# Altium schematic symbol library Schlib1.SchLib: 22 symbols
Pins are listed as number, name and electrical type; pins without a type are passive.

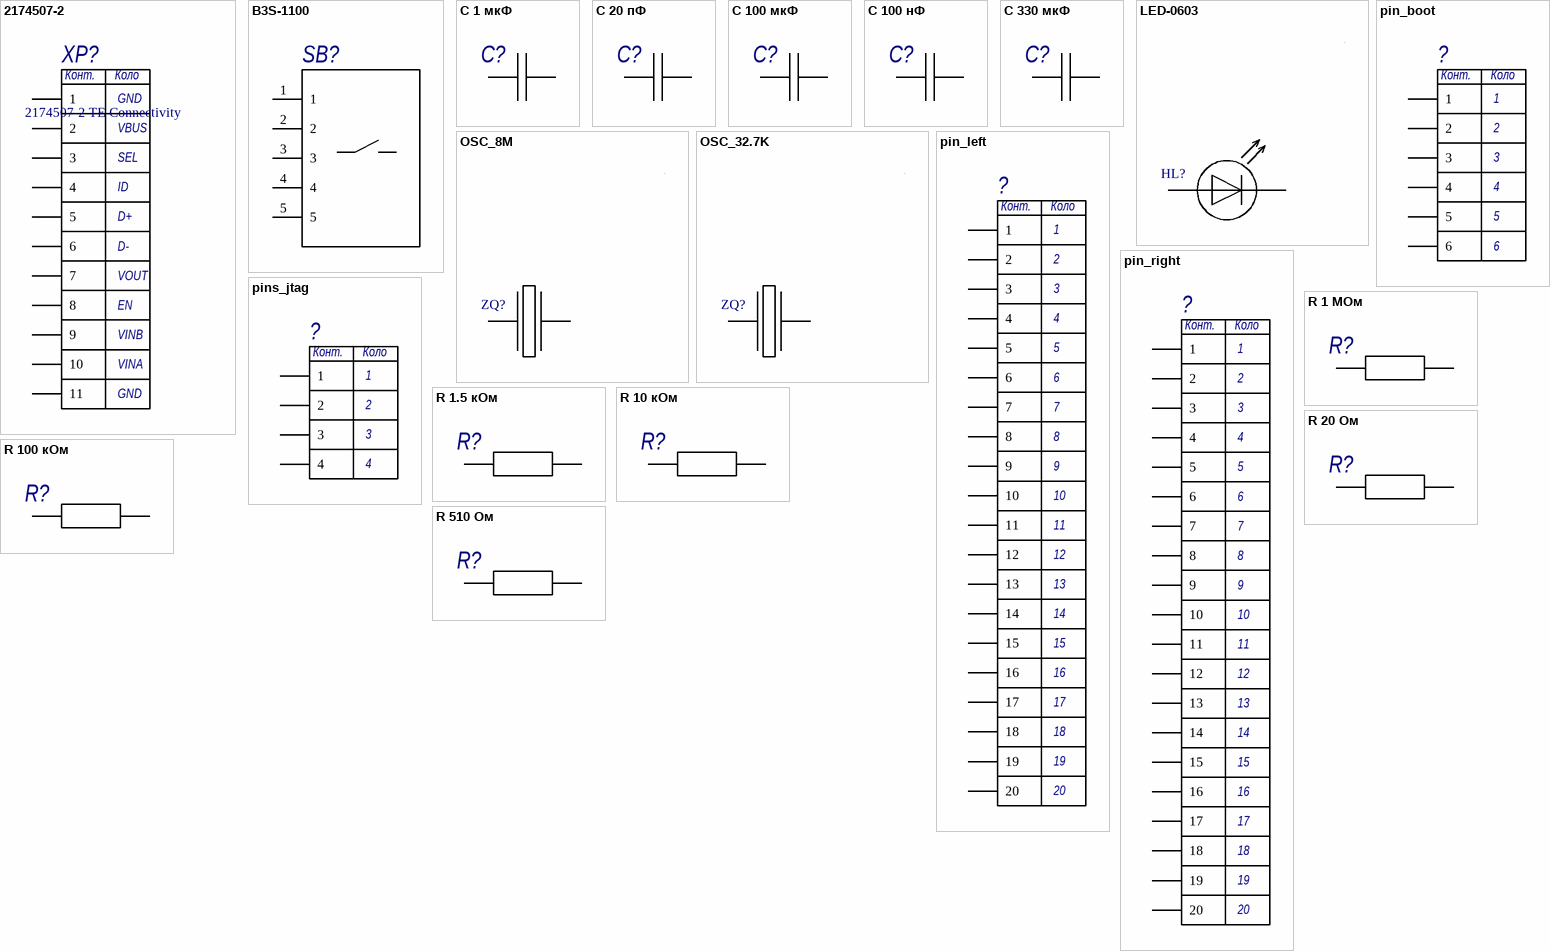
[diagram p0: symbols 2174507-2 to R 510 Ом]

## 2174507-2
designator XP?, comment 2174507-2 TE Connectivity
usb; Manufacturer: TE Connectivity; Name: 2174507-2
footprint CONN5_2013499-1_TEC - duplicate
pins: 1, 2, 3, 4, 5, 6, 7, 8, 9, 10, 11
text: Конт.; Коло; GND; VBUS; SEL; ID; D+; D-; VOUT; EN; VINB; VINA

## B3S-1100
designator SB?, comment B3S-1100 Omron  (value not drawn)
Manufacturer: Omron; Name: B3S-1100
footprint SW_B3S-1100_OMR
pins: 1, 2, 3, 4, 5

## C 1 мкФ
designator C?, comment 0603 63 В 1 мкФ 10% *  (value not drawn)
Voltage: 63 В; Value: 1 мкФ; Package: 0603; Tolerance: 10%; Temp_Coef: *; Manufacturer: *
footprint C_0603
pins: 1, 2

## C 20 пФ
designator C?, comment 0603 63 В 20 пФ 10% *  (value not drawn)
Voltage: 63 В; Value: 20 пФ; Package: 0603; Tolerance: 10%; Temp_Coef: *; Manufacturer: *
footprint C_0603
pins: 1, 2

## C 100 мкФ
designator C?, comment CASE-C_6032 63 В 100 мкФ 10% *  (value not drawn)
Voltage: 63 В; Value: 100 мкФ; Package: CASE-C_6032; Tolerance: 10%; Temp_Coef: *; Manufacturer: *
footprint CAPMP6.3X3.2_2.8N_KEM
pins: 1, 2

## C 100 нФ
designator C?, comment 0603 63 В 100 нФ 10% *  (value not drawn)
Voltage: 63 В; Value: 100 нФ; Package: 0603; Tolerance: 10%; Temp_Coef: *; Manufacturer: *
footprint C_0603
pins: 1, 2

## C 330 мкФ
designator C?, comment CASE-C_6032 63 В 330 мкФ 10% *  (value not drawn)
Voltage: 63 В; Value: 330 мкФ; Package: CASE-C_6032; Tolerance: 10%; Temp_Coef: *; Manufacturer: *
footprint CAPMP6.3X3.2_2.8N_KEM
pins: 1, 2

## LED-0603
designator HL?, comment XL-0603QYGC KENTO  (value not drawn)
Name: XL-0603QYGC; Manufacturer: KENTO
footprint LED_DIALIGHT_598_DIA-M
pins: 1, 2

## OSC_8M
designator ZQ?, comment OSC_8M LCSC  (value not drawn)
Name: OSC_8M; Manufacturer: LCSC
footprint HC-49S
pins: 1, 2

## OSC_32.7K
designator ZQ?, comment OSC_32.7K LCSC  (value not drawn)
Name: OSC_32.7K; Manufacturer: LCSC
footprint SOJ_MC-306_EPS
pins: 1, 2

## pin_boot
designator ?
pads
footprint PIN_BOOT
pins: 1, 2, 3, 4, 5, 6
text: Конт.; Коло

## pin_left
designator ?
pads
footprint pin_left
pins: 1, 2, 3, 4, 5, 6, 7, 8, 9, 10, 11, 12, 13, 14, 15, 16, 17, 18, 19, 20
text: Конт.; Коло

## pin_right
designator ?
pads
footprint pin_right
pins: 1, 2, 3, 4, 5, 6, 7, 8, 9, 10, 11, 12, 13, 14, 15, 16, 17, 18, 19, 20
text: Конт.; Коло

## pins_jtag
designator ?
pads
footprint PIN_JTAG
pins: 1, 2, 3, 4
text: Конт.; Коло

## R 1 МОм
designator R?, comment R-0603 0.1 Вт 1 МОм 10% Yageo  (value not drawn)
Power: 0.1 Вт; Value: 1 МОм; Package: R-0603; Tolerance: 10%; Manufacturer: Yageo
footprint R_0603
pins: 1, 2

## R 1.5 кОм
designator R?, comment R-0603 0.1 Вт 1.5 кОм 10% Yageo  (value not drawn)
Power: 0.1 Вт; Value: 1.5 кОм; Package: R-0603; Tolerance: 10%; Manufacturer: Yageo
footprint R_0603
pins: 1, 2

## R 10 кОм
designator R?, comment R-0603 0.1 Вт 10 кОм 10% Yageo  (value not drawn)
Power: 0.1 Вт; Value: 10 кОм; Package: R-0603; Tolerance: 10%; Manufacturer: Yageo
footprint R_0603
pins: 1, 2

## R 20 Ом
designator R?, comment R-0603 0.1 Вт 20 Ом 10% Yageo  (value not drawn)
Power: 0.1 Вт; Value: 20 Ом; Package: R-0603; Tolerance: 10%; Manufacturer: Yageo
footprint R_0603
pins: 1, 2

## R 100 кОм
designator R?, comment R-0603 0.1 Вт 100 кОм 10% Yageo  (value not drawn)
Power: 0.1 Вт; Value: 100 кОм; Package: R-0603; Tolerance: 10%; Manufacturer: Yageo
footprint R_0603
pins: 1, 2

## R 510 Ом
designator R?, comment R-0603 0.1 Вт 510 Ом 10% Yageo  (value not drawn)
Power: 0.1 Вт; Value: 510 Ом; Package: R-0603; Tolerance: 10%; Manufacturer: Yageo
footprint R_0603
pins: 1, 2

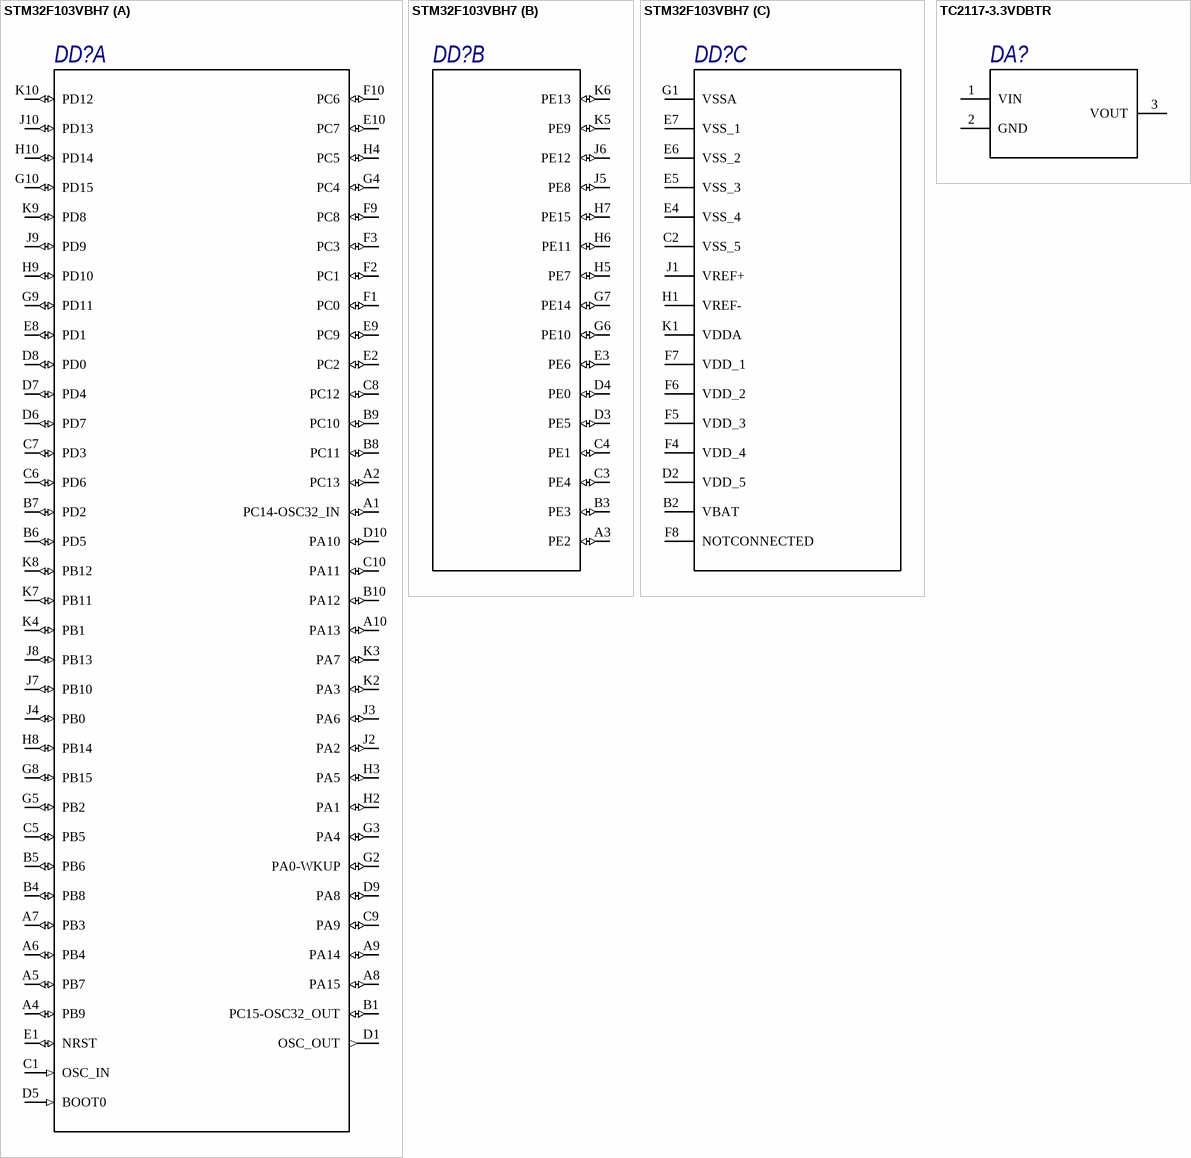
[diagram p1: symbols STM32F103VBH7 to TC2117-3.3VDBTR]

## STM32F103VBH7
designator DD?
Manufacturer: STMicroelectronics; Name: STM32F103VBH7
footprint LFBGA100
part A pins: A1 PC14-OSC32_IN (io), A2 PC13 (io), A4 PB9 (io), A5 PB7 (io), A6 PB4 (io), A7 PB3 (io), A8 PA15 (io), A9 PA14 (io), A10 PA13 (io), B1 PC15-OSC32_OUT (io), B4 PB8 (io), B5 PB6 (io), B6 PD5 (io), B7 PD2 (io), B8 PC11 (io), B9 PC10 (io), B10 PA12 (io), C1 OSC_IN (in), C5 PB5 (io), C6 PD6 (io), C7 PD3 (io), C8 PC12 (io), C9 PA9 (io), C10 PA11 (io), D1 OSC_OUT (out), D5 BOOT0 (in), D6 PD7 (io), D7 PD4 (io), D8 PD0 (io), D9 PA8 (io), D10 PA10 (io), E1 NRST (io), E2 PC2 (io), E8 PD1 (io), E9 PC9 (io), E10 PC7 (io), F1 PC0 (io), F2 PC1 (io), F3 PC3 (io), F9 PC8 (io), F10 PC6 (io), G2 PA0-WKUP (io), G3 PA4 (io), G4 PC4 (io), G5 PB2 (io), G8 PB15 (io), G9 PD11 (io), G10 PD15 (io), H2 PA1 (io), H3 PA5 (io), H4 PC5 (io), H8 PB14 (io), H9 PD10 (io), H10 PD14 (io), J2 PA2 (io), J3 PA6 (io), J4 PB0 (io), J7 PB10 (io), J8 PB13 (io), J9 PD9 (io), J10 PD13 (io), K2 PA3 (io), K3 PA7 (io), K4 PB1 (io), K7 PB11 (io), K8 PB12 (io), K9 PD8 (io), K10 PD12 (io)
part B pins: A3 PE2 (io), B3 PE3 (io), C3 PE4 (io), C4 PE1 (io), D3 PE5 (io), D4 PE0 (io), E3 PE6 (io), G6 PE10 (io), G7 PE14 (io), H5 PE7 (io), H6 PE11 (io), H7 PE15 (io), J5 PE8 (io), J6 PE12 (io), K5 PE9 (io), K6 PE13 (io)
part C pins: B2 VBAT (power), C2 VSS_5 (power), D2 VDD_5 (power), E4 VSS_4 (power), E5 VSS_3 (power), E6 VSS_2 (power), E7 VSS_1 (power), F4 VDD_4 (power), F5 VDD_3 (power), F6 VDD_2 (power), F7 VDD_1 (power), F8 NOTCONNECTED, G1 VSSA (power), H1 VREF- (power), J1 VREF+ (power), K1 VDDA (power)

## TC2117-3.3VDBTR
designator DA?, comment TC2117-3.3VDBTR Microchip  (value not drawn)
Manufacturer: Microchip; Name: TC2117-3.3VDBTR
footprint TC2117
pins: 1 VIN, 2 GND, 3 VOUT